# EAGLE library part POLOLU-2807 (library arduino_due_shield)
https://www.pololu.com/product/2807
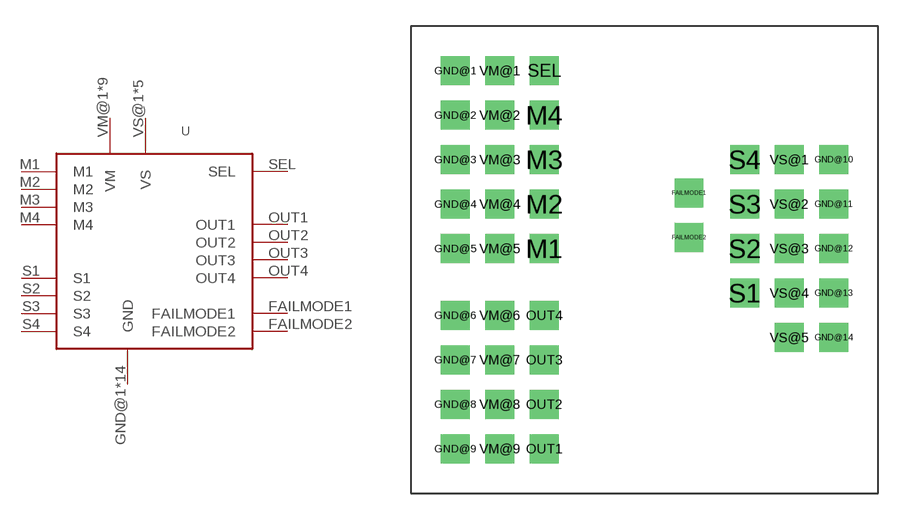
[diagram p0: symbol with the pads of POLOLU-2807-PTH; footprint POLOLU-2807-PTH]

Designator prefix -

## POLOLU-2807  [POLOLU-2807-PTH]
FAILMODE1  FAILMODE1
FAILMODE2  FAILMODE2
GND@1  GND
GND@2  GND
GND@3  GND
GND@4  GND
GND@5  GND
GND@6  GND
GND@7  GND
GND@8  GND
GND@9  GND
GND@10  GND
GND@11  GND
GND@12  GND
GND@13  GND
GND@14  GND
M1  M1
M2  M2
M3  M3
M4  M4
OUT1  OUT1
OUT2  OUT2
OUT3  OUT3
OUT4  OUT4
S1  S1
S2  S2
S3  S3
S4  S4
SEL  SEL
VM@1  VM
VM@2  VM
VM@3  VM
VM@4  VM
VM@5  VM
VM@6  VM
VM@7  VM
VM@8  VM
VM@9  VM
VS@1  VS
VS@2  VS
VS@3  VS
VS@4  VS
VS@5  VS

## Footprint POLOLU-2807-PTH (pad centres in mm)
drill 1.1 square: FAILMODE1 13.335,14.605; FAILMODE2 13.335,12.065; GND@1 0,21.59; GND@2 0,19.05; GND@3 0,16.51; GND@4 0,13.97; GND@5 0,11.43; GND@6 0,7.62; GND@7 0,5.08; GND@8 0,2.54; GND@9 0,0; GND@10 21.59,16.51; GND@11 21.59,13.97; GND@12 21.59,11.43; GND@13 21.59,8.89; GND@14 21.59,6.35; M1 5.08,11.43; M2 5.08,13.97; M3 5.08,16.51; M4 5.08,19.05; OUT1 5.08,0; OUT2 5.08,2.54; OUT3 5.08,5.08; OUT4 5.08,7.62; S1 16.51,8.89; S2 16.51,11.43; S3 16.51,13.97; S4 16.51,16.51; SEL 5.08,21.59; VM@1 2.54,21.59; VM@2 2.54,19.05; VM@3 2.54,16.51; VM@4 2.54,13.97; VM@5 2.54,11.43; VM@6 2.54,7.62; VM@7 2.54,5.08; VM@8 2.54,2.54; VM@9 2.54,0; VS@1 19.05,16.51; VS@2 19.05,13.97; VS@3 19.05,11.43; VS@4 19.05,8.89; VS@5 19.05,6.35